# Altium integrated library TZ0308D.IntLib: 1 symbol
Pins are listed as number, name and electrical type; pins without a type are passive.

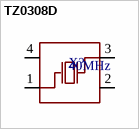
[diagram p0: symbol TZ0308D]

## TZ0308D
designator X?  value 40MHz  (hidden comment: TZ0308D)
Crystals. -30C~+85C 30ohm 40MHz 9pF Crystal Oscillator +/-10ppm SMD3225-4P Crystals ROHS; Manufacturer: TST; Component Type: Crystal Oscillators; Design Item ID: TZ0308D; JLCPCB Part #: C379787; Manufacturer Part Number: TZ0308D
footprint TZ0308D (CRYSTAL-SMD_4P-L3.2-W2.5-BL)
pins: 1 OSC1, 2 GND, 3 OSC2, 4 GND